# Altium footprint library CN_BAT_CLIP_HARWIN_S8211-46R.PcbLib: 1 footprints
Each footprint in its own frame and in the unit in brackets; x right, y up, seen from the top. Pads: shape width x height; smd on the part's side, far side on the other; paste and mask are expansions set on the pad; w line width, h text height; cw(c..) or ccw(c..) is an arc to the next point about the centre after c.
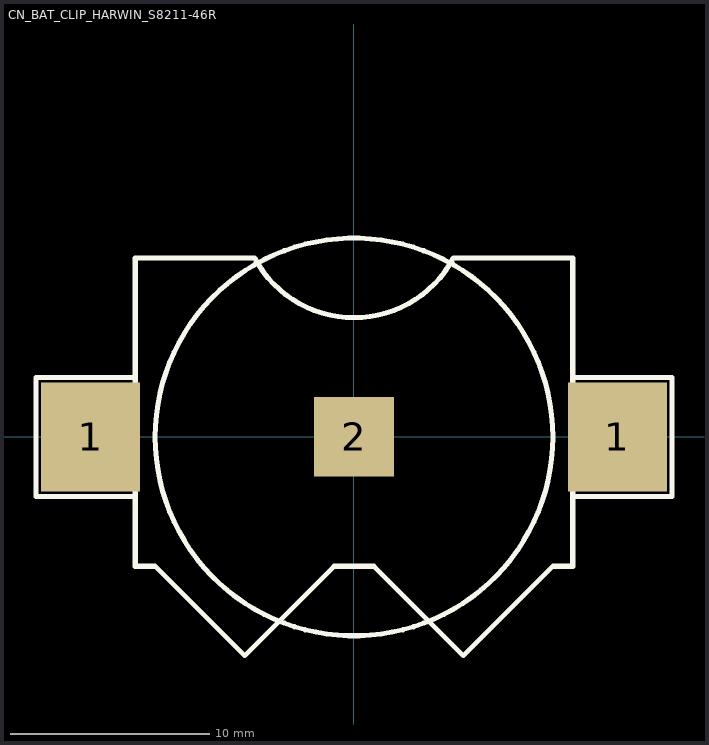
[diagram p0: the footprint, top view; thin cyan lines are the x and y axes]

## CN_BAT_CLIP_HARWIN_S8211-46R [mm]
pads (3):
  rect 5x5.5 smd: 1(-13.25,0) 1(13.25,0)
  rect 4x4 smd: 2(0,0)
Top Overlay:
  circle w0.254: c0,0 r10
  lines w0.254: -11,-3 -16,-3 -16,3 -11,3 ; 11,-3 16,-3 16,3 11,3 ; -11,-6.5 -10,-6.5 -5.5,-11 -1,-6.5 1,-6.5 5.5,-11 10,-6.5 11,-6.5 11,9 5,9 cw(c0,11.667) -5,9 -11,9 -11,-6.5
3D body: height 4, standoff 0, extent -15.5,-10.968 15.201,8.968